# Altium footprint library ssop_28p65_1020x530x200l75x30.PcbLib: 1 footprints
Each footprint in its own frame and in the unit in brackets; x right, y up, seen from the top. Pads: shape width x height; smd on the part's side, far side on the other; paste and mask are expansions set on the pad; w line width, h text height; cw(c..) or ccw(c..) is an arc to the next point about the centre after c.
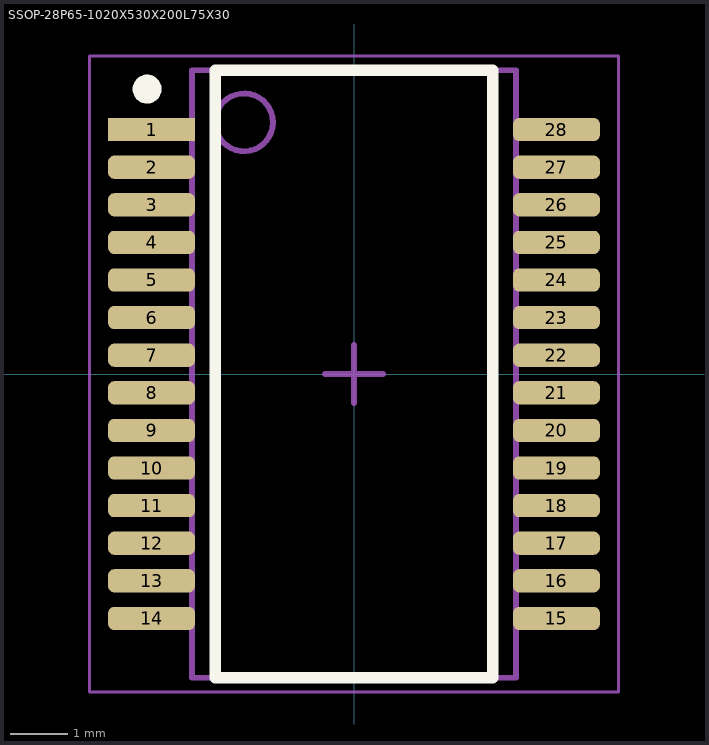
[diagram p0: the footprint, top view; thin cyan lines are the x and y axes]

## SSOP-28P65-1020X530X200L75X30 [mm] "SSOP, 28-Leads, Body 10,20x5,30mm, Pitch 0,65mm, IPC Medium Density"
height 2
pads (28):
  rect 1.5x0.4 smd: 1(-3.5,4.225)
  rrect50% 1.5x0.4 smd: 2(-3.5,3.575) 3(-3.5,2.925) 4(-3.5,2.275) 5(-3.5,1.625) 6(-3.5,0.975) 7(-3.5,0.325) 8(-3.5,-0.325) 9(-3.5,-0.975) 10(-3.5,-1.625) 11(-3.5,-2.275) 12(-3.5,-2.925) 13(-3.5,-3.575) 14(-3.5,-4.225) 15(3.5,-4.225) 16(3.5,-3.575) 17(3.5,-2.925) 18(3.5,-2.275) 19(3.5,-1.625) 20(3.5,-0.975) 21(3.5,-0.325) 22(3.5,0.325) 23(3.5,0.975) 24(3.5,1.625) 25(3.5,2.275) 26(3.5,2.925) 27(3.5,3.575) 28(3.5,4.225)
Top Overlay:
  circle w0.25: c-3.575,4.925 r0.125
  lines w0.2: -2.4,-5.25 2.4,-5.25 2.4,5.25 -2.4,5.25 -2.4,-5.25
Top Comment:
  text ".Comment" at 1.1,5.6 h1.2
Top Designator:
  text ".Designator" at -0.8,5.6 h1.2
Top Component Outline:
  circle w0.1: c-1.9,4.35 r0.5
  lines w0.1: -2.8,-5.25 2.8,-5.25 2.8,5.25 -2.8,5.25 -2.8,-5.25
Top Courtyard (Mech15):
  lines w0.05: -4.575,-5.5 4.575,-5.5 4.575,5.5 -4.575,5.5 -4.575,-5.5
  lines w0.1: -0.5,0 0.5,0 ; 0,-0.5 0,0.5
3D body "SSOP-28.STEP": height 2, standoff 0, extent -3.9,-5.1 3.9,5.1